# Altium footprint library MOSFET-BJT-SMD.PcbLib: 1 footprints
Each footprint in its own frame and in the unit in brackets; x right, y up, seen from the top. Pads: shape width x height; smd on the part's side, far side on the other; paste and mask are expansions set on the pad; w line width, h text height; cw(c..) or ccw(c..) is an arc to the next point about the centre after c.
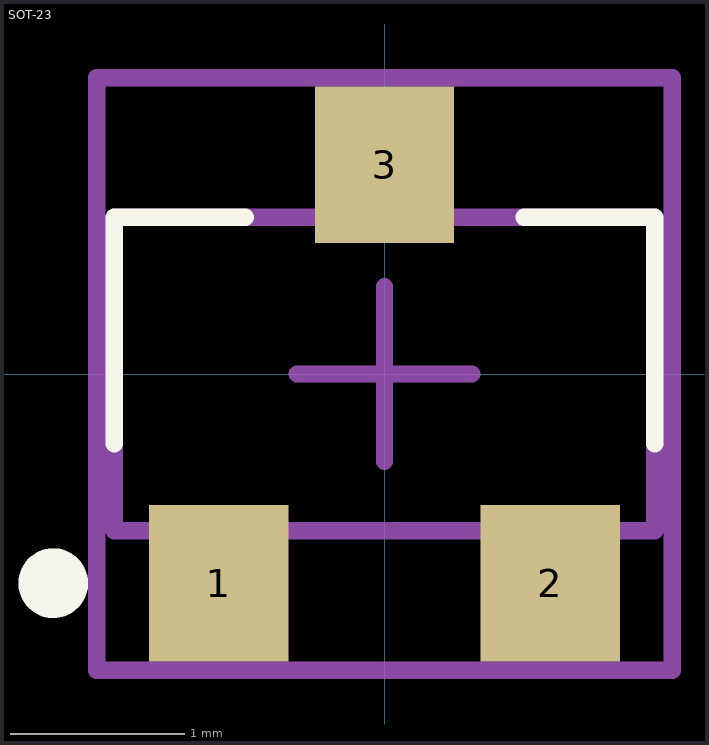
[diagram p0: the footprint, top view; thin cyan lines are the x and y axes]

## SOT-23 [mm]
pads (3):
  rect 0.8x0.9 smd: 1(-0.95,-1.2) 2(0.95,-1.2) 3(0,1.2)
Top Overlay:
  circle w0.2: c-1.9,-1.2 r0.1
  lines w0.1: -1.55,-0.4 -1.55,0.9 -0.8,0.9 ; 0.8,0.9 1.55,0.9 1.55,-0.4
Mechanical 13:
  lines w0.1: -1.55,-0.9 1.55,-0.9 1.55,0.9 -1.55,0.9 -1.55,-0.9
Mechanical 15:
  lines w0.1: -0.5,0 0.5,0 ; 0,-0.5 0,0.5 ; -1.65,-1.7 1.65,-1.7 1.65,1.7 -1.65,1.7 -1.65,-1.7
3D body "SOT95P280X125-3L.step": height 1.25, standoff 0, extent -1.55,-1.5 1.55,1.5